# EAGLE library part WM8960_BREAKOUT (library wm8960)
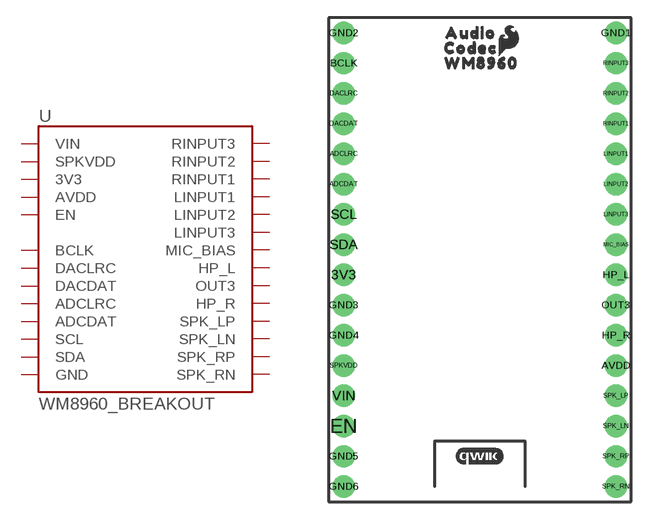
[diagram p1: symbol with the pads of WM8960_BREAKOUT; footprint WM8960_BREAKOUT]

Designator prefix U

## WM8960_BREAKOUT  [WM8960_BREAKOUT]
3V3  3V3
ADCDAT  ADCDAT
ADCLRC  ADCLRC
AVDD  AVDD
BCLK  BCLK
DACDAT  DACDAT
DACLRC  DACLRC
EN  EN
GND1  GND
GND2  GND
GND3  GND
GND4  GND
GND5  GND
GND6  GND
HP_L  HP_L
HP_R  HP_R
LINPUT1  LINPUT1
LINPUT2  LINPUT2
LINPUT3  LINPUT3
MIC_BIAS  MIC_BIAS
OUT3  OUT3
RINPUT1  RINPUT1
RINPUT2  RINPUT2
RINPUT3  RINPUT3
SCL  SCL
SDA  SDA
SPK_LN  SPK_LN
SPK_LP  SPK_LP
SPK_RN  SPK_RN
SPK_RP  SPK_RP
SPKVDD  SPKVDD
VIN  VIN

## Footprint WM8960_BREAKOUT (pad centres in mm)
drill 1.016 pad 1.88: 3V3 -11.43,0; ADCDAT -11.43,7.62; ADCLRC -11.43,10.16; AVDD 11.43,-7.62; BCLK -11.43,17.78; DACDAT -11.43,12.7; DACLRC -11.43,15.24; EN -11.43,-12.7; GND1 11.43,20.32; GND2 -11.43,20.32; GND3 -11.43,-2.54; GND4 -11.43,-5.08; GND5 -11.43,-15.24; GND6 -11.43,-17.78; HP_L 11.43,0; HP_R 11.43,-5.08; LINPUT1 11.43,10.16; LINPUT2 11.43,7.62; LINPUT3 11.43,5.08; MIC_BIAS 11.43,2.54; OUT3 11.43,-2.54; RINPUT1 11.43,12.7; RINPUT2 11.43,15.24; RINPUT3 11.43,17.78; SCL -11.43,5.08; SDA -11.43,2.54; SPK_LN 11.43,-12.7; SPK_LP 11.43,-10.16; SPK_RN 11.43,-17.78; SPK_RP 11.43,-15.24; SPKVDD -11.43,-7.62; VIN -11.43,-10.16